# Altium footprint library SAMTEC-TSM-110-01-X-DH.PcbLib: 1 footprints
Each footprint in its own frame and in the unit in brackets; x right, y up, seen from the top. Pads: shape width x height; smd on the part's side, far side on the other; paste and mask are expansions set on the pad; w line width, h text height; cw(c..) or ccw(c..) is an arc to the next point about the centre after c.
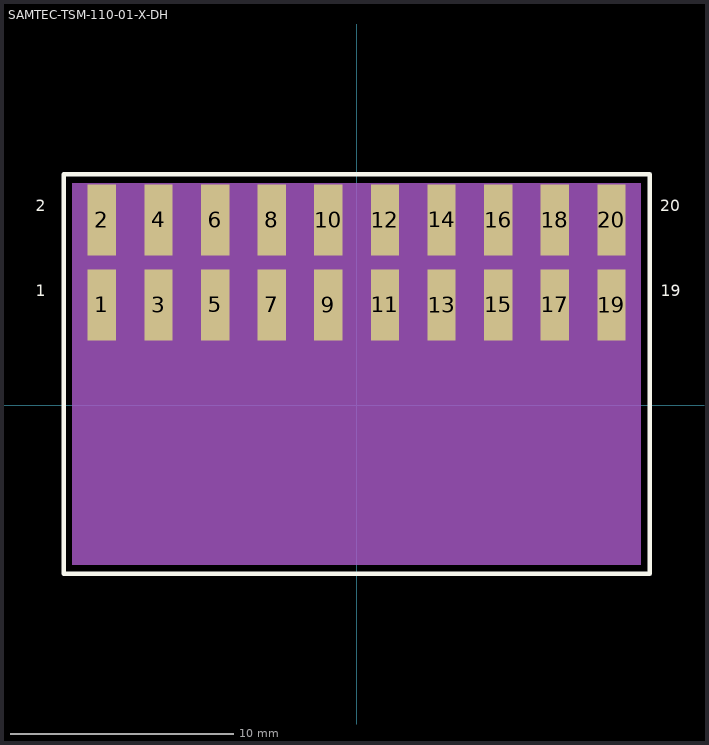
[diagram p0: the footprint, top view; thin cyan lines are the x and y axes]

## SAMTEC-TSM-110-01-X-DH [mm]
pads (20):
  rect 1.27x3.18 smd: 1(-11.43,4.496) 2(-11.43,8.306) 3(-8.89,4.496) 4(-8.89,8.306) 5(-6.35,4.496) 6(-6.35,8.306) 7(-3.81,4.496) 8(-3.81,8.306) 9(-1.27,4.496) 10(-1.27,8.306) 11(1.27,4.496) 12(1.27,8.306) 13(3.81,4.496) 14(3.81,8.306) 15(6.35,4.496) 16(6.35,8.306) 17(8.89,4.496) 18(8.89,8.306) 19(11.43,4.496) 20(11.43,8.306)
Top Overlay:
  lines w0.2: -13.15,-7.562 -13.15,10.347 13.15,10.347 13.15,-7.562 -13.15,-7.562
  text "19" at 13.652,4.89 h0.5
  text "1" at -14.388,4.882 h0.5
  text "2" at -14.394,8.696 h0.5
  text "20" at 13.628,8.692 h0.5
Top Paste:
  region: -12.069,6.086 -10.795,6.086 -10.795,2.907 -12.069,2.907
  region: -12.085,9.896 -10.795,9.896 -10.795,6.727 -12.085,6.727
  region: -9.54,6.086 -8.255,6.086 -8.255,2.911 -9.54,2.911
  region: -9.533,9.896 -8.255,9.896 -8.255,6.722 -9.533,6.722
  region: -6.996,6.086 -5.715,6.086 -5.715,2.91 -6.996,2.91
  region: -6.996,9.896 -5.715,9.896 -5.715,6.727 -6.996,6.727
  region: -4.453,6.086 -3.175,6.086 -3.175,2.911 -4.453,2.911
  region: -4.447,9.896 -3.175,9.896 -3.175,6.719 -4.447,6.719
  region: -1.905,6.086 -0.635,6.086 -0.635,2.906 -1.905,2.906
  region: -1.907,9.896 -0.635,9.896 -0.635,6.723 -1.907,6.723
  region: 0.635,6.086 1.905,6.086 1.905,2.908 0.635,2.908
  region: 0.636,9.896 1.905,9.896 1.905,6.729 0.636,6.729
  region: 3.18,6.086 4.445,6.086 4.445,2.911 3.18,2.911
  region: 3.178,9.896 4.445,9.896 4.445,6.721 3.178,6.721
  region: 5.722,6.086 6.985,6.086 6.985,2.91 5.722,2.91
  region: 5.718,9.896 6.985,9.896 6.985,6.72 5.718,6.72
  region: 8.271,6.086 9.525,6.086 9.525,2.912 8.271,2.912
  region: 8.26,9.896 9.525,9.896 9.525,6.72 8.26,6.72
  region: 10.813,6.086 12.065,6.086 12.065,2.911 10.813,2.911
  region: 10.797,9.896 12.065,9.896 12.065,6.717 10.797,6.717
Top Solder:
  region: -12.129,6.137 -10.744,6.137 -10.744,2.858 -12.129,2.858
  region: -12.134,9.947 -10.744,9.947 -10.744,6.675 -12.134,6.675
  region: -9.579,6.137 -8.204,6.137 -8.204,2.856 -9.579,2.856
  region: -9.578,9.947 -8.204,9.947 -8.204,6.666 -9.578,6.666
  region: -7.049,6.137 -5.664,6.137 -5.664,2.86 -7.049,2.86
  region: -7.042,9.947 -5.664,9.947 -5.664,6.67 -7.042,6.67
  region: -4.505,6.137 -3.124,6.137 -3.124,2.861 -4.505,2.861
  region: -4.505,9.947 -3.124,9.947 -3.124,6.678 -4.505,6.678
  region: -1.958,6.137 -0.584,6.137 -0.584,2.858 -1.958,2.858
  region: -1.959,9.947 -0.584,9.947 -0.584,6.675 -1.959,6.675
  region: 0.585,6.137 1.956,6.137 1.956,2.86 0.585,2.86
  region: 0.585,9.947 1.956,9.947 1.956,6.677 0.585,6.677
  region: 3.124,6.137 4.496,6.137 4.496,2.855 3.124,2.855
  region: 3.128,9.947 4.496,9.947 4.496,6.674 3.128,6.674
  region: 5.673,6.137 7.036,6.137 7.036,2.86 5.673,2.86
  region: 5.675,9.947 7.036,9.947 7.036,6.678 5.675,6.678
  region: 8.216,6.137 9.576,6.137 9.576,2.859 8.216,2.859
  region: 8.216,9.947 9.576,9.947 9.576,6.675 8.216,6.675
  region: 10.762,6.137 12.116,6.137 12.116,2.86 10.762,2.86
  region: 10.745,9.947 12.116,9.947 12.116,6.666 10.745,6.666
Mechanical 1:
  drawing of 254 lines, arcs and shapes, not listed
Mechanical 4:
  region: -12.75,-7.162 -12.75,9.947 12.75,9.947 12.75,-7.162